# Altium integrated library Renesas Memory.IntLib: 284 symbols (part 3 of 9)
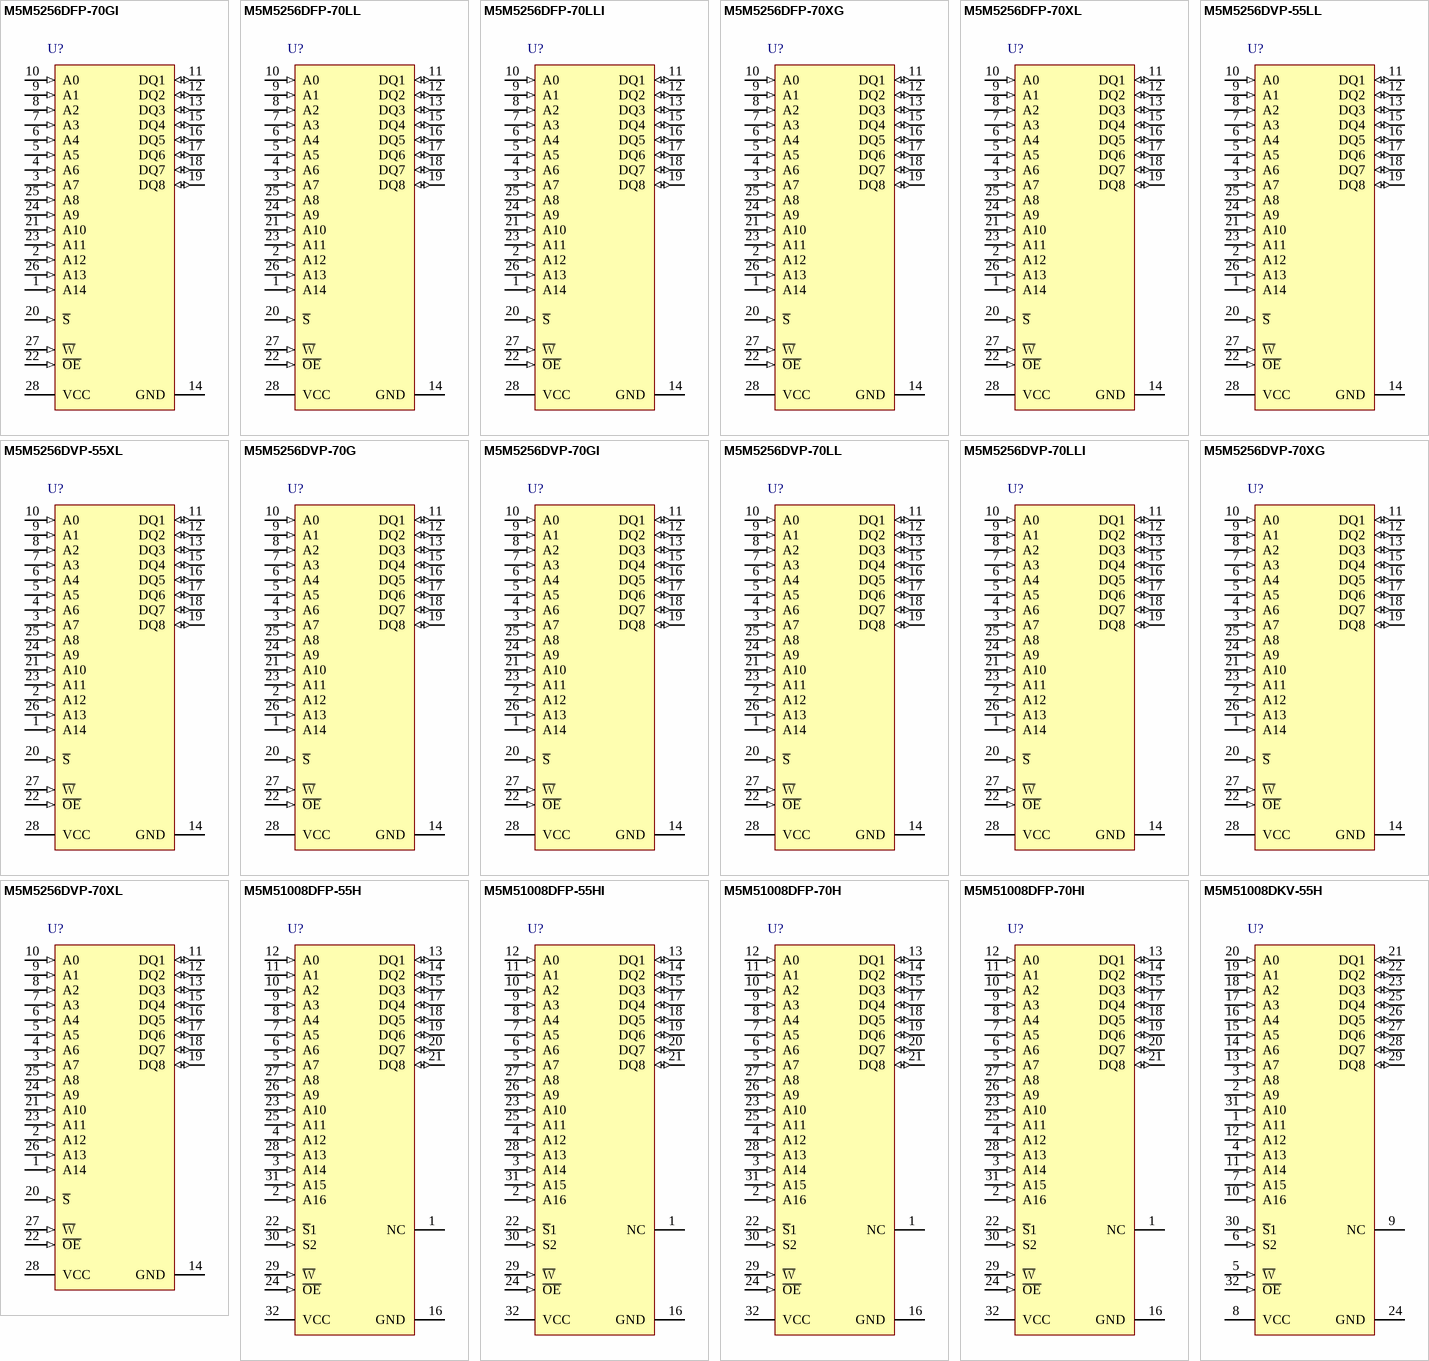
[diagram p17: symbols M5M5256DFP-70GI to M5M51008DKV-55H]

## M5M5256DVP-55LL
designator U?
262144-bit (32768-word x 8-bit) CMOS SRAM; Published: 3-Mar-2010; DatasheetVersion: Rev.2.1, Feb-2004; PackageVersion: Sep-2005; PackageReference: PTSA0028ZA-A; Publisher: Altium Limited; PackageDescription: 28-Pin Thin Shrink Plastic Small Outline Package, 0.55 mm Pitch - Unconventional Pinout; Code_JEITA: P-TSOP(1)28-8x11.8-0.55; ComponentLink1Description: Manufacturer Link; ComponentLink1URL: http://sg.renesas.com/products/memory/memory_category_landing.jsp; ComponentLink2Description: Datasheet; ComponentLink2URL: http://documentation.renesas.com/eng/products/memory/rej03c0055_m5m5256dfp.pdf; ComponentLink3Description: Packaging Specification; ComponentLink3URL: http://sg.renesas.com/media/products/common_info/package/pdf/ic/code/ptsa0028za_a.pdf
footprint PTSA0028ZA-A_N (TSSOP, 28-Leads, Body 8x11.8mm, Pitch 0.55mm, Unconventional Pinout, IPC Medium Density)
footprint PTSA0028ZA-A_L (TSSOP, 28-Leads, Body 8x11.8mm, Pitch 0.55mm, Unconventional Pinout, IPC High Density)
footprint PTSA0028ZA-A_M (TSSOP, 28-Leads, Body 8x11.8mm, Pitch 0.55mm, Unconventional Pinout, IPC Low Density)
pins: 1 A14 (in), 2 A12 (in), 3 A7 (in), 4 A6 (in), 5 A5 (in), 6 A4 (in), 7 A3 (in), 8 A2 (in), 9 A1 (in), 10 A0 (in), 11 DQ1 (io), 12 DQ2 (io), 13 DQ3 (io), 14 GND (power), 15 DQ4 (io), 16 DQ5 (io), 17 DQ6 (io), 18 DQ7 (io), 19 DQ8 (io), 20 ~{S} (in), 21 A10 (in), 22 ~{OE} (in), 23 A11 (in), 24 A9 (in), 25 A8 (in), 26 A13 (in), 27 ~{W} (in), 28 VCC (power)

## M5M5256DVP-55XL
designator U?
262144-bit (32768-word x 8-bit) CMOS SRAM; Published: 3-Mar-2010; DatasheetVersion: Rev.2.1, Feb-2004; PackageVersion: Sep-2005; PackageReference: PTSA0028ZA-A; Publisher: Altium Limited; PackageDescription: 28-Pin Thin Shrink Plastic Small Outline Package, 0.55 mm Pitch - Unconventional Pinout; Code_JEITA: P-TSOP(1)28-8x11.8-0.55; ComponentLink1Description: Manufacturer Link; ComponentLink1URL: http://sg.renesas.com/products/memory/memory_category_landing.jsp; ComponentLink2Description: Datasheet; ComponentLink2URL: http://documentation.renesas.com/eng/products/memory/rej03c0055_m5m5256dfp.pdf; ComponentLink3Description: Packaging Specification; ComponentLink3URL: http://sg.renesas.com/media/products/common_info/package/pdf/ic/code/ptsa0028za_a.pdf
footprint PTSA0028ZA-A_N (TSSOP, 28-Leads, Body 8x11.8mm, Pitch 0.55mm, Unconventional Pinout, IPC Medium Density)
footprint PTSA0028ZA-A_L (TSSOP, 28-Leads, Body 8x11.8mm, Pitch 0.55mm, Unconventional Pinout, IPC High Density)
footprint PTSA0028ZA-A_M (TSSOP, 28-Leads, Body 8x11.8mm, Pitch 0.55mm, Unconventional Pinout, IPC Low Density)
pins: 1 A14 (in), 2 A12 (in), 3 A7 (in), 4 A6 (in), 5 A5 (in), 6 A4 (in), 7 A3 (in), 8 A2 (in), 9 A1 (in), 10 A0 (in), 11 DQ1 (io), 12 DQ2 (io), 13 DQ3 (io), 14 GND (power), 15 DQ4 (io), 16 DQ5 (io), 17 DQ6 (io), 18 DQ7 (io), 19 DQ8 (io), 20 ~{S} (in), 21 A10 (in), 22 ~{OE} (in), 23 A11 (in), 24 A9 (in), 25 A8 (in), 26 A13 (in), 27 ~{W} (in), 28 VCC (power)

## M5M5256DVP-70G
designator U?
262144-bit (32768-word x 8-bit) CMOS SRAM; Published: 3-Mar-2010; DatasheetVersion: Rev.2.1, Feb-2004; PackageVersion: Sep-2005; PackageReference: PTSA0028ZA-A; Publisher: Altium Limited; PackageDescription: 28-Pin Thin Shrink Plastic Small Outline Package, 0.55 mm Pitch - Unconventional Pinout; Code_JEITA: P-TSOP(1)28-8x11.8-0.55; ComponentLink1Description: Manufacturer Link; ComponentLink1URL: http://sg.renesas.com/products/memory/memory_category_landing.jsp; ComponentLink2Description: Datasheet; ComponentLink2URL: http://documentation.renesas.com/eng/products/memory/rej03c0055_m5m5256dfp.pdf; ComponentLink3Description: Packaging Specification; ComponentLink3URL: http://sg.renesas.com/media/products/common_info/package/pdf/ic/code/ptsa0028za_a.pdf
footprint PTSA0028ZA-A_N (TSSOP, 28-Leads, Body 8x11.8mm, Pitch 0.55mm, Unconventional Pinout, IPC Medium Density)
footprint PTSA0028ZA-A_L (TSSOP, 28-Leads, Body 8x11.8mm, Pitch 0.55mm, Unconventional Pinout, IPC High Density)
footprint PTSA0028ZA-A_M (TSSOP, 28-Leads, Body 8x11.8mm, Pitch 0.55mm, Unconventional Pinout, IPC Low Density)
pins: 1 A14 (in), 2 A12 (in), 3 A7 (in), 4 A6 (in), 5 A5 (in), 6 A4 (in), 7 A3 (in), 8 A2 (in), 9 A1 (in), 10 A0 (in), 11 DQ1 (io), 12 DQ2 (io), 13 DQ3 (io), 14 GND (power), 15 DQ4 (io), 16 DQ5 (io), 17 DQ6 (io), 18 DQ7 (io), 19 DQ8 (io), 20 ~{S} (in), 21 A10 (in), 22 ~{OE} (in), 23 A11 (in), 24 A9 (in), 25 A8 (in), 26 A13 (in), 27 ~{W} (in), 28 VCC (power)

## M5M5256DVP-70GI
designator U?
262144-bit (32768-word x 8-bit) CMOS SRAM; Published: 3-Mar-2010; DatasheetVersion: Rev.2.1, Feb-2004; PackageVersion: Sep-2005; PackageReference: PTSA0028ZA-A; Publisher: Altium Limited; PackageDescription: 28-Pin Thin Shrink Plastic Small Outline Package, 0.55 mm Pitch - Unconventional Pinout; Code_JEITA: P-TSOP(1)28-8x11.8-0.55; ComponentLink1Description: Manufacturer Link; ComponentLink1URL: http://sg.renesas.com/products/memory/memory_category_landing.jsp; ComponentLink2Description: Datasheet; ComponentLink2URL: http://documentation.renesas.com/eng/products/memory/rej03c0055_m5m5256dfp.pdf; ComponentLink3Description: Packaging Specification; ComponentLink3URL: http://sg.renesas.com/media/products/common_info/package/pdf/ic/code/ptsa0028za_a.pdf
footprint PTSA0028ZA-A_N (TSSOP, 28-Leads, Body 8x11.8mm, Pitch 0.55mm, Unconventional Pinout, IPC Medium Density)
footprint PTSA0028ZA-A_L (TSSOP, 28-Leads, Body 8x11.8mm, Pitch 0.55mm, Unconventional Pinout, IPC High Density)
footprint PTSA0028ZA-A_M (TSSOP, 28-Leads, Body 8x11.8mm, Pitch 0.55mm, Unconventional Pinout, IPC Low Density)
pins: 1 A14 (in), 2 A12 (in), 3 A7 (in), 4 A6 (in), 5 A5 (in), 6 A4 (in), 7 A3 (in), 8 A2 (in), 9 A1 (in), 10 A0 (in), 11 DQ1 (io), 12 DQ2 (io), 13 DQ3 (io), 14 GND (power), 15 DQ4 (io), 16 DQ5 (io), 17 DQ6 (io), 18 DQ7 (io), 19 DQ8 (io), 20 ~{S} (in), 21 A10 (in), 22 ~{OE} (in), 23 A11 (in), 24 A9 (in), 25 A8 (in), 26 A13 (in), 27 ~{W} (in), 28 VCC (power)

## M5M5256DVP-70LL
designator U?
262144-bit (32768-word x 8-bit) CMOS SRAM; Published: 3-Mar-2010; DatasheetVersion: Rev.2.1, Feb-2004; PackageVersion: Sep-2005; PackageReference: PTSA0028ZA-A; Publisher: Altium Limited; PackageDescription: 28-Pin Thin Shrink Plastic Small Outline Package, 0.55 mm Pitch - Unconventional Pinout; Code_JEITA: P-TSOP(1)28-8x11.8-0.55; ComponentLink1Description: Manufacturer Link; ComponentLink1URL: http://sg.renesas.com/products/memory/memory_category_landing.jsp; ComponentLink2Description: Datasheet; ComponentLink2URL: http://documentation.renesas.com/eng/products/memory/rej03c0055_m5m5256dfp.pdf; ComponentLink3Description: Packaging Specification; ComponentLink3URL: http://sg.renesas.com/media/products/common_info/package/pdf/ic/code/ptsa0028za_a.pdf
footprint PTSA0028ZA-A_N (TSSOP, 28-Leads, Body 8x11.8mm, Pitch 0.55mm, Unconventional Pinout, IPC Medium Density)
footprint PTSA0028ZA-A_L (TSSOP, 28-Leads, Body 8x11.8mm, Pitch 0.55mm, Unconventional Pinout, IPC High Density)
footprint PTSA0028ZA-A_M (TSSOP, 28-Leads, Body 8x11.8mm, Pitch 0.55mm, Unconventional Pinout, IPC Low Density)
pins: 1 A14 (in), 2 A12 (in), 3 A7 (in), 4 A6 (in), 5 A5 (in), 6 A4 (in), 7 A3 (in), 8 A2 (in), 9 A1 (in), 10 A0 (in), 11 DQ1 (io), 12 DQ2 (io), 13 DQ3 (io), 14 GND (power), 15 DQ4 (io), 16 DQ5 (io), 17 DQ6 (io), 18 DQ7 (io), 19 DQ8 (io), 20 ~{S} (in), 21 A10 (in), 22 ~{OE} (in), 23 A11 (in), 24 A9 (in), 25 A8 (in), 26 A13 (in), 27 ~{W} (in), 28 VCC (power)

## M5M5256DVP-70LLI
designator U?
262144-bit (32768-word x 8-bit) CMOS SRAM; Published: 3-Mar-2010; DatasheetVersion: Rev.2.1, Feb-2004; PackageVersion: Sep-2005; PackageReference: PTSA0028ZA-A; Publisher: Altium Limited; PackageDescription: 28-Pin Thin Shrink Plastic Small Outline Package, 0.55 mm Pitch - Unconventional Pinout; Code_JEITA: P-TSOP(1)28-8x11.8-0.55; ComponentLink1Description: Manufacturer Link; ComponentLink1URL: http://sg.renesas.com/products/memory/memory_category_landing.jsp; ComponentLink2Description: Datasheet; ComponentLink2URL: http://documentation.renesas.com/eng/products/memory/rej03c0055_m5m5256dfp.pdf; ComponentLink3Description: Packaging Specification; ComponentLink3URL: http://sg.renesas.com/media/products/common_info/package/pdf/ic/code/ptsa0028za_a.pdf
footprint PTSA0028ZA-A_N (TSSOP, 28-Leads, Body 8x11.8mm, Pitch 0.55mm, Unconventional Pinout, IPC Medium Density)
footprint PTSA0028ZA-A_L (TSSOP, 28-Leads, Body 8x11.8mm, Pitch 0.55mm, Unconventional Pinout, IPC High Density)
footprint PTSA0028ZA-A_M (TSSOP, 28-Leads, Body 8x11.8mm, Pitch 0.55mm, Unconventional Pinout, IPC Low Density)
pins: 1 A14 (in), 2 A12 (in), 3 A7 (in), 4 A6 (in), 5 A5 (in), 6 A4 (in), 7 A3 (in), 8 A2 (in), 9 A1 (in), 10 A0 (in), 11 DQ1 (io), 12 DQ2 (io), 13 DQ3 (io), 14 GND (power), 15 DQ4 (io), 16 DQ5 (io), 17 DQ6 (io), 18 DQ7 (io), 19 DQ8 (io), 20 ~{S} (in), 21 A10 (in), 22 ~{OE} (in), 23 A11 (in), 24 A9 (in), 25 A8 (in), 26 A13 (in), 27 ~{W} (in), 28 VCC (power)

## M5M5256DVP-70XG
designator U?
262144-bit (32768-word x 8-bit) CMOS SRAM; Published: 3-Mar-2010; DatasheetVersion: Rev.2.1, Feb-2004; PackageVersion: Sep-2005; PackageReference: PTSA0028ZA-A; Publisher: Altium Limited; PackageDescription: 28-Pin Thin Shrink Plastic Small Outline Package, 0.55 mm Pitch - Unconventional Pinout; Code_JEITA: P-TSOP(1)28-8x11.8-0.55; ComponentLink1Description: Manufacturer Link; ComponentLink1URL: http://sg.renesas.com/products/memory/memory_category_landing.jsp; ComponentLink2Description: Datasheet; ComponentLink2URL: http://documentation.renesas.com/eng/products/memory/rej03c0055_m5m5256dfp.pdf; ComponentLink3Description: Packaging Specification; ComponentLink3URL: http://sg.renesas.com/media/products/common_info/package/pdf/ic/code/ptsa0028za_a.pdf
footprint PTSA0028ZA-A_N (TSSOP, 28-Leads, Body 8x11.8mm, Pitch 0.55mm, Unconventional Pinout, IPC Medium Density)
footprint PTSA0028ZA-A_L (TSSOP, 28-Leads, Body 8x11.8mm, Pitch 0.55mm, Unconventional Pinout, IPC High Density)
footprint PTSA0028ZA-A_M (TSSOP, 28-Leads, Body 8x11.8mm, Pitch 0.55mm, Unconventional Pinout, IPC Low Density)
pins: 1 A14 (in), 2 A12 (in), 3 A7 (in), 4 A6 (in), 5 A5 (in), 6 A4 (in), 7 A3 (in), 8 A2 (in), 9 A1 (in), 10 A0 (in), 11 DQ1 (io), 12 DQ2 (io), 13 DQ3 (io), 14 GND (power), 15 DQ4 (io), 16 DQ5 (io), 17 DQ6 (io), 18 DQ7 (io), 19 DQ8 (io), 20 ~{S} (in), 21 A10 (in), 22 ~{OE} (in), 23 A11 (in), 24 A9 (in), 25 A8 (in), 26 A13 (in), 27 ~{W} (in), 28 VCC (power)

## M5M5256DVP-70XL
designator U?
262144-bit (32768-word x 8-bit) CMOS SRAM; Published: 3-Mar-2010; DatasheetVersion: Rev.2.1, Feb-2004; PackageVersion: Sep-2005; PackageReference: PTSA0028ZA-A; Publisher: Altium Limited; PackageDescription: 28-Pin Thin Shrink Plastic Small Outline Package, 0.55 mm Pitch - Unconventional Pinout; Code_JEITA: P-TSOP(1)28-8x11.8-0.55; ComponentLink1Description: Manufacturer Link; ComponentLink1URL: http://sg.renesas.com/products/memory/memory_category_landing.jsp; ComponentLink2Description: Datasheet; ComponentLink2URL: http://documentation.renesas.com/eng/products/memory/rej03c0055_m5m5256dfp.pdf; ComponentLink3Description: Packaging Specification; ComponentLink3URL: http://sg.renesas.com/media/products/common_info/package/pdf/ic/code/ptsa0028za_a.pdf
footprint PTSA0028ZA-A_N (TSSOP, 28-Leads, Body 8x11.8mm, Pitch 0.55mm, Unconventional Pinout, IPC Medium Density)
footprint PTSA0028ZA-A_L (TSSOP, 28-Leads, Body 8x11.8mm, Pitch 0.55mm, Unconventional Pinout, IPC High Density)
footprint PTSA0028ZA-A_M (TSSOP, 28-Leads, Body 8x11.8mm, Pitch 0.55mm, Unconventional Pinout, IPC Low Density)
pins: 1 A14 (in), 2 A12 (in), 3 A7 (in), 4 A6 (in), 5 A5 (in), 6 A4 (in), 7 A3 (in), 8 A2 (in), 9 A1 (in), 10 A0 (in), 11 DQ1 (io), 12 DQ2 (io), 13 DQ3 (io), 14 GND (power), 15 DQ4 (io), 16 DQ5 (io), 17 DQ6 (io), 18 DQ7 (io), 19 DQ8 (io), 20 ~{S} (in), 21 A10 (in), 22 ~{OE} (in), 23 A11 (in), 24 A9 (in), 25 A8 (in), 26 A13 (in), 27 ~{W} (in), 28 VCC (power)

## M5M51008DFP-55H
designator U?
1048576-bit (131072-word x 8-bit) CMOS STATIC SRAM; Published: 3-Mar-2010; DatasheetVersion: Ver 1.1, Apr-2003; PackageVersion: Sep-2005; PackageReference: PRSP0032DA-A; Publisher: Altium Limited; PackageDescription: 32-Pin Plastic Small Outline Package, 20.8 x 11.4 mm Body, 1.27 mm Pitch; Code_JEITA: P-SOP32-11.4x20.75-1.27; ComponentLink1Description: Manufacturer Link; ComponentLink1URL: http://sg.renesas.com/products/memory/memory_category_landing.jsp; ComponentLink2Description: Datasheet; ComponentLink2URL: http://documentation.renesas.com/eng/products/memory/mej02c2003_m5m51008dvp.pdf; ComponentLink3Description: Packaging Specification; ComponentLink3URL: http://sg.renesas.com/media/products/common_info/package/pdf/ic/code/prsp0032da_a.pdf
footprint PRSP0032DA-A_N (SOP, 32-Leads, Body 20.8x11.4mm, Pitch 1.27mm, IPC Medium Density)
footprint PRSP0032DA-A_L (SOP, 32-Leads, Body 20.8x11.4mm, Pitch 1.27mm, IPC High Density)
footprint PRSP0032DA-A_M (SOP, 32-Leads, Body 20.8x11.4mm, Pitch 1.27mm, IPC Low Density)
pins: 1 NC, 2 A16 (in), 3 A14 (in), 4 A12 (in), 5 A7 (in), 6 A6 (in), 7 A5 (in), 8 A4 (in), 9 A3 (in), 10 A2 (in), 11 A1 (in), 12 A0 (in), 13 DQ1 (io), 14 DQ2 (io), 15 DQ3 (io), 16 GND (power), 17 DQ4 (io), 18 DQ5 (io), 19 DQ6 (io), 20 DQ7 (io), 21 DQ8 (io), 22 ~{S}1 (in), 23 A10 (in), 24 ~{OE} (in), 25 A11 (in), 26 A9 (in), 27 A8 (in), 28 A13 (in), 29 ~{W} (in), 30 S2 (in), 31 A15 (in), 32 VCC (power)

## M5M51008DFP-55HI
designator U?
1048576-bit (131072-word x 8-bit) CMOS STATIC SRAM; Published: 3-Mar-2010; DatasheetVersion: Ver 1.1, Apr-2003; PackageVersion: Sep-2005; PackageReference: PRSP0032DA-A; Publisher: Altium Limited; PackageDescription: 32-Pin Plastic Small Outline Package, 20.8 x 11.4 mm Body, 1.27 mm Pitch; Code_JEITA: P-SOP32-11.4x20.75-1.27; ComponentLink1Description: Manufacturer Link; ComponentLink1URL: http://sg.renesas.com/products/memory/memory_category_landing.jsp; ComponentLink2Description: Datasheet; ComponentLink2URL: http://documentation.renesas.com/eng/products/memory/mej02c2003_m5m51008dvp.pdf; ComponentLink3Description: Packaging Specification; ComponentLink3URL: http://sg.renesas.com/media/products/common_info/package/pdf/ic/code/prsp0032da_a.pdf
footprint PRSP0032DA-A_N (SOP, 32-Leads, Body 20.8x11.4mm, Pitch 1.27mm, IPC Medium Density)
footprint PRSP0032DA-A_L (SOP, 32-Leads, Body 20.8x11.4mm, Pitch 1.27mm, IPC High Density)
footprint PRSP0032DA-A_M (SOP, 32-Leads, Body 20.8x11.4mm, Pitch 1.27mm, IPC Low Density)
pins: 1 NC, 2 A16 (in), 3 A14 (in), 4 A12 (in), 5 A7 (in), 6 A6 (in), 7 A5 (in), 8 A4 (in), 9 A3 (in), 10 A2 (in), 11 A1 (in), 12 A0 (in), 13 DQ1 (io), 14 DQ2 (io), 15 DQ3 (io), 16 GND (power), 17 DQ4 (io), 18 DQ5 (io), 19 DQ6 (io), 20 DQ7 (io), 21 DQ8 (io), 22 ~{S}1 (in), 23 A10 (in), 24 ~{OE} (in), 25 A11 (in), 26 A9 (in), 27 A8 (in), 28 A13 (in), 29 ~{W} (in), 30 S2 (in), 31 A15 (in), 32 VCC (power)

## M5M51008DFP-70H
designator U?
1048576-bit (131072-word x 8-bit) CMOS STATIC SRAM; Published: 3-Mar-2010; DatasheetVersion: Ver 1.1, Apr-2003; PackageVersion: Sep-2005; PackageReference: PRSP0032DA-A; Publisher: Altium Limited; PackageDescription: 32-Pin Plastic Small Outline Package, 20.8 x 11.4 mm Body, 1.27 mm Pitch; Code_JEITA: P-SOP32-11.4x20.75-1.27; ComponentLink1Description: Manufacturer Link; ComponentLink1URL: http://sg.renesas.com/products/memory/memory_category_landing.jsp; ComponentLink2Description: Datasheet; ComponentLink2URL: http://documentation.renesas.com/eng/products/memory/mej02c2003_m5m51008dvp.pdf; ComponentLink3Description: Packaging Specification; ComponentLink3URL: http://sg.renesas.com/media/products/common_info/package/pdf/ic/code/prsp0032da_a.pdf
footprint PRSP0032DA-A_N (SOP, 32-Leads, Body 20.8x11.4mm, Pitch 1.27mm, IPC Medium Density)
footprint PRSP0032DA-A_L (SOP, 32-Leads, Body 20.8x11.4mm, Pitch 1.27mm, IPC High Density)
footprint PRSP0032DA-A_M (SOP, 32-Leads, Body 20.8x11.4mm, Pitch 1.27mm, IPC Low Density)
pins: 1 NC, 2 A16 (in), 3 A14 (in), 4 A12 (in), 5 A7 (in), 6 A6 (in), 7 A5 (in), 8 A4 (in), 9 A3 (in), 10 A2 (in), 11 A1 (in), 12 A0 (in), 13 DQ1 (io), 14 DQ2 (io), 15 DQ3 (io), 16 GND (power), 17 DQ4 (io), 18 DQ5 (io), 19 DQ6 (io), 20 DQ7 (io), 21 DQ8 (io), 22 ~{S}1 (in), 23 A10 (in), 24 ~{OE} (in), 25 A11 (in), 26 A9 (in), 27 A8 (in), 28 A13 (in), 29 ~{W} (in), 30 S2 (in), 31 A15 (in), 32 VCC (power)

## M5M51008DFP-70HI
designator U?
1048576-bit (131072-word x 8-bit) CMOS STATIC SRAM; Published: 3-Mar-2010; DatasheetVersion: Ver 1.1, Apr-2003; PackageVersion: Sep-2005; PackageReference: PRSP0032DA-A; Publisher: Altium Limited; PackageDescription: 32-Pin Plastic Small Outline Package, 20.8 x 11.4 mm Body, 1.27 mm Pitch; Code_JEITA: P-SOP32-11.4x20.75-1.27; ComponentLink1Description: Manufacturer Link; ComponentLink1URL: http://sg.renesas.com/products/memory/memory_category_landing.jsp; ComponentLink2Description: Datasheet; ComponentLink2URL: http://documentation.renesas.com/eng/products/memory/mej02c2003_m5m51008dvp.pdf; ComponentLink3Description: Packaging Specification; ComponentLink3URL: http://sg.renesas.com/media/products/common_info/package/pdf/ic/code/prsp0032da_a.pdf
footprint PRSP0032DA-A_N (SOP, 32-Leads, Body 20.8x11.4mm, Pitch 1.27mm, IPC Medium Density)
footprint PRSP0032DA-A_L (SOP, 32-Leads, Body 20.8x11.4mm, Pitch 1.27mm, IPC High Density)
footprint PRSP0032DA-A_M (SOP, 32-Leads, Body 20.8x11.4mm, Pitch 1.27mm, IPC Low Density)
pins: 1 NC, 2 A16 (in), 3 A14 (in), 4 A12 (in), 5 A7 (in), 6 A6 (in), 7 A5 (in), 8 A4 (in), 9 A3 (in), 10 A2 (in), 11 A1 (in), 12 A0 (in), 13 DQ1 (io), 14 DQ2 (io), 15 DQ3 (io), 16 GND (power), 17 DQ4 (io), 18 DQ5 (io), 19 DQ6 (io), 20 DQ7 (io), 21 DQ8 (io), 22 ~{S}1 (in), 23 A10 (in), 24 ~{OE} (in), 25 A11 (in), 26 A9 (in), 27 A8 (in), 28 A13 (in), 29 ~{W} (in), 30 S2 (in), 31 A15 (in), 32 VCC (power)

## M5M51008DKV-55H
designator U?
1048576-bit (131072-word x 8-bit) CMOS STATIC SRAM; Published: 3-Mar-2010; DatasheetVersion: Ver 1.1, Apr-2003; PackageVersion: Sep-2005; PackageReference: PTSA0032KB-A; Publisher: Altium Limited; PackageDescription: 32-Pin Plastic Thin Shrink Small Outline Package 0.5 mm Pitch; Code_JEITA: P-TSOP(1)32-8x11.8-0.50; ComponentLink1Description: Manufacturer Link; ComponentLink1URL: http://sg.renesas.com/products/memory/memory_category_landing.jsp; ComponentLink2Description: Datasheet; ComponentLink2URL: http://documentation.renesas.com/eng/products/memory/mej02c2003_m5m51008dvp.pdf; ComponentLink3Description: Packaging Specification; ComponentLink3URL: http://sg.renesas.com/media/products/common_info/package/pdf/ic/code/ptsa0032kb_a.pdf
footprint PTSA0032KB-A_N (TSSOP, 32-Leads, Body 8x11.8mm, Pitch 0.5mm, IPC Medium Density)
footprint PTSA0032KB-A_L (TSSOP, 32-Leads, Body 8x11.8mm, Pitch 0.5mm, IPC High Density)
footprint PTSA0032KB-A_M (TSSOP, 32-Leads, Body 8x11.8mm, Pitch 0.5mm, IPC Low Density)
pins: 1 A11 (in), 2 A9 (in), 3 A8 (in), 4 A13 (in), 5 ~{W} (in), 6 S2 (in), 7 A15 (in), 8 VCC (power), 9 NC, 10 A16 (in), 11 A14 (in), 12 A12 (in), 13 A7 (in), 14 A6 (in), 15 A5 (in), 16 A4 (in), 17 A3 (in), 18 A2 (in), 19 A1 (in), 20 A0 (in), 21 DQ1 (io), 22 DQ2 (io), 23 DQ3 (io), 24 GND (power), 25 DQ4 (io), 26 DQ5 (io), 27 DQ6 (io), 28 DQ7 (io), 29 DQ8 (io), 30 ~{S}1 (in), 31 A10 (in), 32 ~{OE} (in)

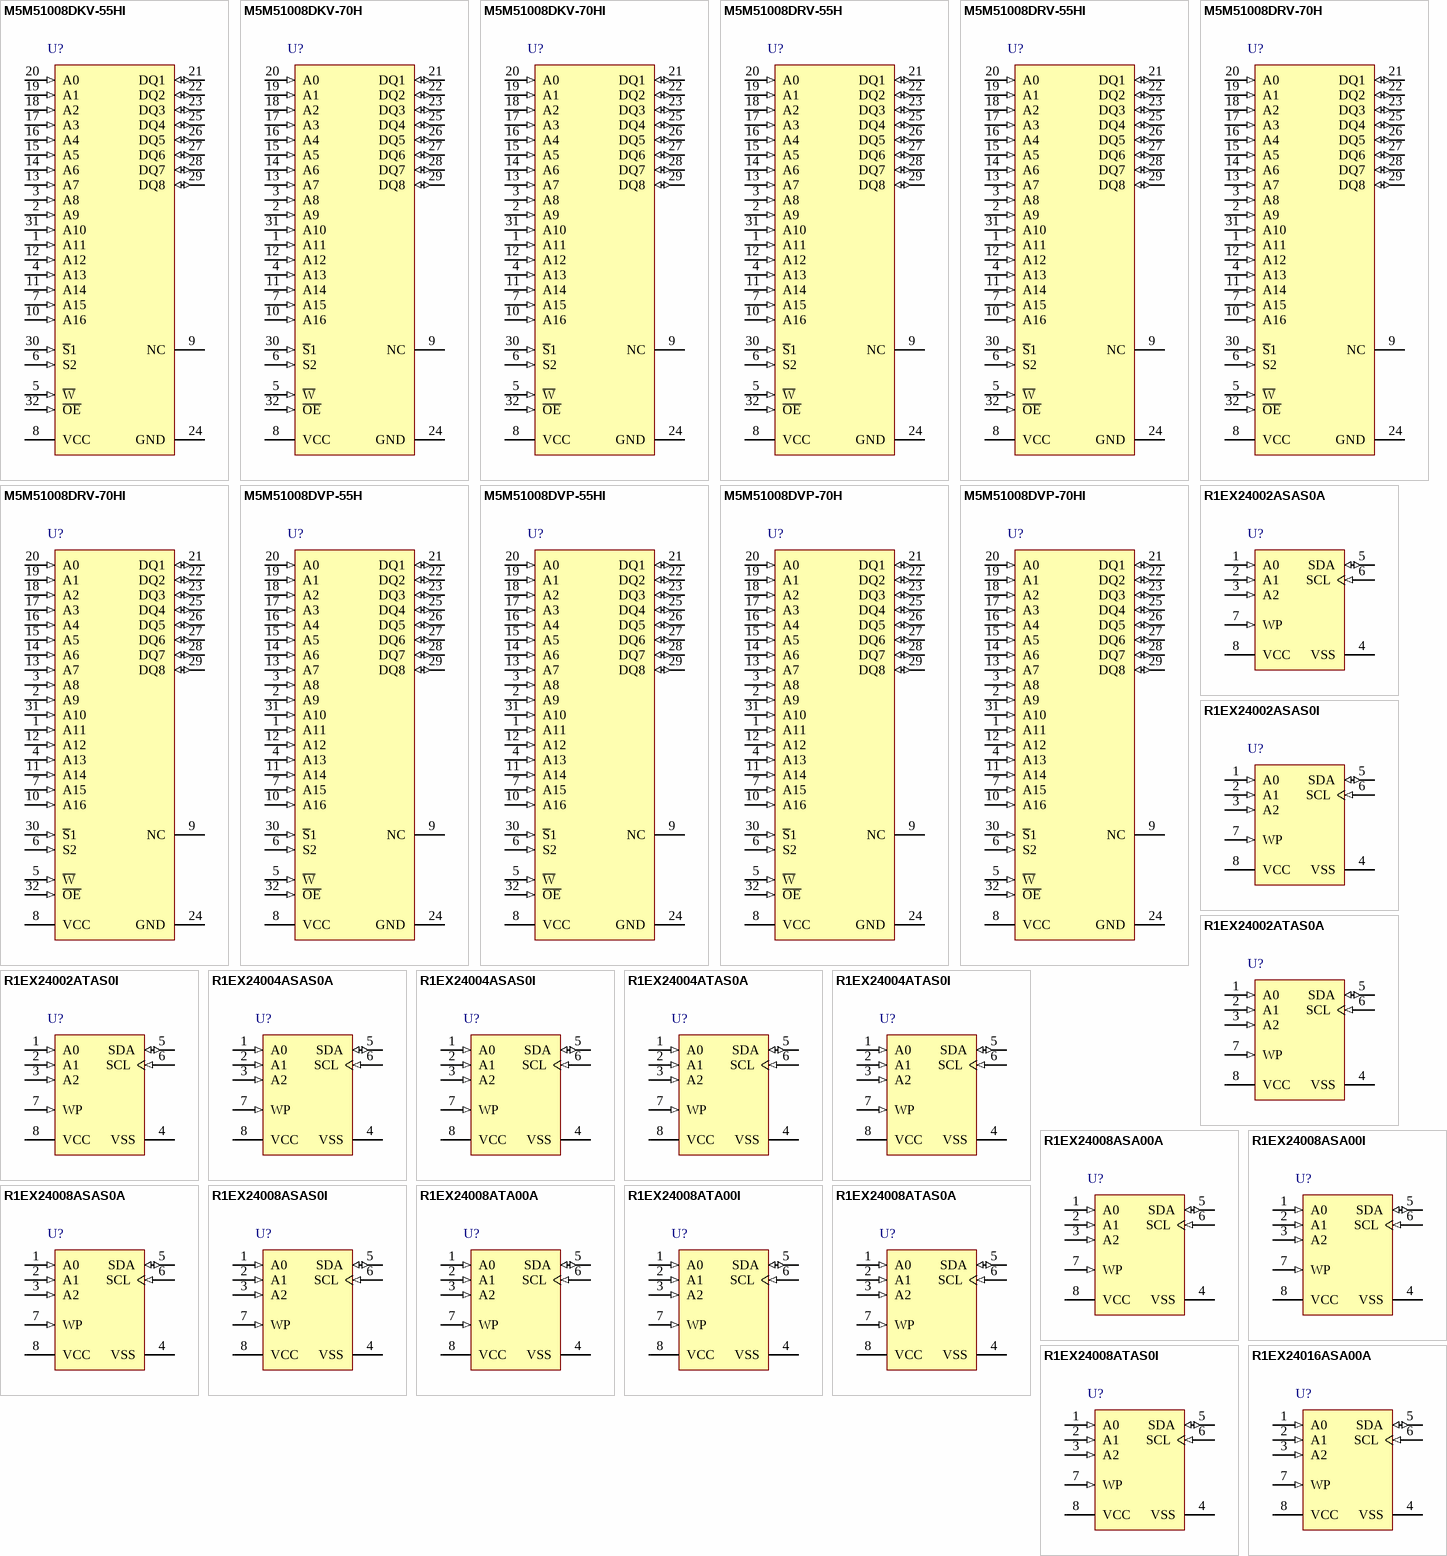
[diagram p5: symbols M5M51008DKV-55HI to R1EX24016ASA00A]

## M5M51008DKV-55HI
designator U?
1048576-bit (131072-word x 8-bit) CMOS STATIC SRAM; Published: 3-Mar-2010; DatasheetVersion: Ver 1.1, Apr-2003; PackageVersion: Sep-2005; PackageReference: PTSA0032KB-A; Publisher: Altium Limited; PackageDescription: 32-Pin Plastic Thin Shrink Small Outline Package 0.5 mm Pitch; Code_JEITA: P-TSOP(1)32-8x11.8-0.50; ComponentLink1Description: Manufacturer Link; ComponentLink1URL: http://sg.renesas.com/products/memory/memory_category_landing.jsp; ComponentLink2Description: Datasheet; ComponentLink2URL: http://documentation.renesas.com/eng/products/memory/mej02c2003_m5m51008dvp.pdf; ComponentLink3Description: Packaging Specification; ComponentLink3URL: http://sg.renesas.com/media/products/common_info/package/pdf/ic/code/ptsa0032kb_a.pdf
footprint PTSA0032KB-A_N (TSSOP, 32-Leads, Body 8x11.8mm, Pitch 0.5mm, IPC Medium Density)
footprint PTSA0032KB-A_L (TSSOP, 32-Leads, Body 8x11.8mm, Pitch 0.5mm, IPC High Density)
footprint PTSA0032KB-A_M (TSSOP, 32-Leads, Body 8x11.8mm, Pitch 0.5mm, IPC Low Density)
pins: 1 A11 (in), 2 A9 (in), 3 A8 (in), 4 A13 (in), 5 ~{W} (in), 6 S2 (in), 7 A15 (in), 8 VCC (power), 9 NC, 10 A16 (in), 11 A14 (in), 12 A12 (in), 13 A7 (in), 14 A6 (in), 15 A5 (in), 16 A4 (in), 17 A3 (in), 18 A2 (in), 19 A1 (in), 20 A0 (in), 21 DQ1 (io), 22 DQ2 (io), 23 DQ3 (io), 24 GND (power), 25 DQ4 (io), 26 DQ5 (io), 27 DQ6 (io), 28 DQ7 (io), 29 DQ8 (io), 30 ~{S}1 (in), 31 A10 (in), 32 ~{OE} (in)

## M5M51008DKV-70H
designator U?
1048576-bit (131072-word x 8-bit) CMOS STATIC SRAM; Published: 3-Mar-2010; DatasheetVersion: Ver 1.1, Apr-2003; PackageVersion: Sep-2005; PackageReference: PTSA0032KB-A; Publisher: Altium Limited; PackageDescription: 32-Pin Plastic Thin Shrink Small Outline Package 0.5 mm Pitch; Code_JEITA: P-TSOP(1)32-8x11.8-0.50; ComponentLink1Description: Manufacturer Link; ComponentLink1URL: http://sg.renesas.com/products/memory/memory_category_landing.jsp; ComponentLink2Description: Datasheet; ComponentLink2URL: http://documentation.renesas.com/eng/products/memory/mej02c2003_m5m51008dvp.pdf; ComponentLink3Description: Packaging Specification; ComponentLink3URL: http://sg.renesas.com/media/products/common_info/package/pdf/ic/code/ptsa0032kb_a.pdf
footprint PTSA0032KB-A_N (TSSOP, 32-Leads, Body 8x11.8mm, Pitch 0.5mm, IPC Medium Density)
footprint PTSA0032KB-A_L (TSSOP, 32-Leads, Body 8x11.8mm, Pitch 0.5mm, IPC High Density)
footprint PTSA0032KB-A_M (TSSOP, 32-Leads, Body 8x11.8mm, Pitch 0.5mm, IPC Low Density)
pins: 1 A11 (in), 2 A9 (in), 3 A8 (in), 4 A13 (in), 5 ~{W} (in), 6 S2 (in), 7 A15 (in), 8 VCC (power), 9 NC, 10 A16 (in), 11 A14 (in), 12 A12 (in), 13 A7 (in), 14 A6 (in), 15 A5 (in), 16 A4 (in), 17 A3 (in), 18 A2 (in), 19 A1 (in), 20 A0 (in), 21 DQ1 (io), 22 DQ2 (io), 23 DQ3 (io), 24 GND (power), 25 DQ4 (io), 26 DQ5 (io), 27 DQ6 (io), 28 DQ7 (io), 29 DQ8 (io), 30 ~{S}1 (in), 31 A10 (in), 32 ~{OE} (in)

## M5M51008DKV-70HI
designator U?
1048576-bit (131072-word x 8-bit) CMOS STATIC SRAM; Published: 3-Mar-2010; DatasheetVersion: Ver 1.1, Apr-2003; PackageVersion: Sep-2005; PackageReference: PTSA0032KB-A; Publisher: Altium Limited; PackageDescription: 32-Pin Plastic Thin Shrink Small Outline Package 0.5 mm Pitch; Code_JEITA: P-TSOP(1)32-8x11.8-0.50; ComponentLink1Description: Manufacturer Link; ComponentLink1URL: http://sg.renesas.com/products/memory/memory_category_landing.jsp; ComponentLink2Description: Datasheet; ComponentLink2URL: http://documentation.renesas.com/eng/products/memory/mej02c2003_m5m51008dvp.pdf; ComponentLink3Description: Packaging Specification; ComponentLink3URL: http://sg.renesas.com/media/products/common_info/package/pdf/ic/code/ptsa0032kb_a.pdf
footprint PTSA0032KB-A_N (TSSOP, 32-Leads, Body 8x11.8mm, Pitch 0.5mm, IPC Medium Density)
footprint PTSA0032KB-A_L (TSSOP, 32-Leads, Body 8x11.8mm, Pitch 0.5mm, IPC High Density)
footprint PTSA0032KB-A_M (TSSOP, 32-Leads, Body 8x11.8mm, Pitch 0.5mm, IPC Low Density)
pins: 1 A11 (in), 2 A9 (in), 3 A8 (in), 4 A13 (in), 5 ~{W} (in), 6 S2 (in), 7 A15 (in), 8 VCC (power), 9 NC, 10 A16 (in), 11 A14 (in), 12 A12 (in), 13 A7 (in), 14 A6 (in), 15 A5 (in), 16 A4 (in), 17 A3 (in), 18 A2 (in), 19 A1 (in), 20 A0 (in), 21 DQ1 (io), 22 DQ2 (io), 23 DQ3 (io), 24 GND (power), 25 DQ4 (io), 26 DQ5 (io), 27 DQ6 (io), 28 DQ7 (io), 29 DQ8 (io), 30 ~{S}1 (in), 31 A10 (in), 32 ~{OE} (in)

## M5M51008DRV-55H
designator U?
1048576-bit (131072-word x 8-bit) CMOS STATIC SRAM; Published: 3-Mar-2010; DatasheetVersion: Ver 1.1, Apr-2003; PackageVersion: Sep-2005; PackageReference: PTSA0032KA-B; Publisher: Altium Limited; PackageDescription: 32-Pin Plastic Thin Shrink Small Outline Package, Reverse Pinout 0.5 mm Pitch; Code_JEITA: P-TSOP(1)32-8x18.4-0.50; ComponentLink1Description: Manufacturer Link; ComponentLink1URL: http://sg.renesas.com/products/memory/memory_category_landing.jsp; ComponentLink2Description: Datasheet; ComponentLink2URL: http://documentation.renesas.com/eng/products/memory/mej02c2003_m5m51008dvp.pdf; ComponentLink3Description: Packaging Specification; ComponentLink3URL: http://sg.renesas.com/media/products/common_info/package/pdf/ic/code/ptsa0032ka_b.pdf
footprint PTSA0032KA-B_N (TSSOP, 32-Leads, Body 8x18.4mm, Pitch 0.5mm, Reverse Pinout, IPC Medium Density)
footprint PTSA0032KA-B_L (TSSOP, 32-Leads, Body 8x18.4mm, Pitch 0.5mm, Reverse Pinout, IPC High Density)
footprint PTSA0032KA-B_M (TSSOP, 32-Leads, Body 8x18.4mm, Pitch 0.5mm, Reverse Pinout, IPC Low Density)
pins: 1 A11 (in), 2 A9 (in), 3 A8 (in), 4 A13 (in), 5 ~{W} (in), 6 S2 (in), 7 A15 (in), 8 VCC (power), 9 NC, 10 A16 (in), 11 A14 (in), 12 A12 (in), 13 A7 (in), 14 A6 (in), 15 A5 (in), 16 A4 (in), 17 A3 (in), 18 A2 (in), 19 A1 (in), 20 A0 (in), 21 DQ1 (io), 22 DQ2 (io), 23 DQ3 (io), 24 GND (power), 25 DQ4 (io), 26 DQ5 (io), 27 DQ6 (io), 28 DQ7 (io), 29 DQ8 (io), 30 ~{S}1 (in), 31 A10 (in), 32 ~{OE} (in)

## M5M51008DRV-55HI
designator U?
1048576-bit (131072-word x 8-bit) CMOS STATIC SRAM; Published: 3-Mar-2010; DatasheetVersion: Ver 1.1, Apr-2003; PackageVersion: Sep-2005; PackageReference: PTSA0032KA-B; Publisher: Altium Limited; PackageDescription: 32-Pin Plastic Thin Shrink Small Outline Package, Reverse Pinout 0.5 mm Pitch; Code_JEITA: P-TSOP(1)32-8x18.4-0.50; ComponentLink1Description: Manufacturer Link; ComponentLink1URL: http://sg.renesas.com/products/memory/memory_category_landing.jsp; ComponentLink2Description: Datasheet; ComponentLink2URL: http://documentation.renesas.com/eng/products/memory/mej02c2003_m5m51008dvp.pdf; ComponentLink3Description: Packaging Specification; ComponentLink3URL: http://sg.renesas.com/media/products/common_info/package/pdf/ic/code/ptsa0032ka_b.pdf
footprint PTSA0032KA-B_N (TSSOP, 32-Leads, Body 8x18.4mm, Pitch 0.5mm, Reverse Pinout, IPC Medium Density)
footprint PTSA0032KA-B_L (TSSOP, 32-Leads, Body 8x18.4mm, Pitch 0.5mm, Reverse Pinout, IPC High Density)
footprint PTSA0032KA-B_M (TSSOP, 32-Leads, Body 8x18.4mm, Pitch 0.5mm, Reverse Pinout, IPC Low Density)
pins: 1 A11 (in), 2 A9 (in), 3 A8 (in), 4 A13 (in), 5 ~{W} (in), 6 S2 (in), 7 A15 (in), 8 VCC (power), 9 NC, 10 A16 (in), 11 A14 (in), 12 A12 (in), 13 A7 (in), 14 A6 (in), 15 A5 (in), 16 A4 (in), 17 A3 (in), 18 A2 (in), 19 A1 (in), 20 A0 (in), 21 DQ1 (io), 22 DQ2 (io), 23 DQ3 (io), 24 GND (power), 25 DQ4 (io), 26 DQ5 (io), 27 DQ6 (io), 28 DQ7 (io), 29 DQ8 (io), 30 ~{S}1 (in), 31 A10 (in), 32 ~{OE} (in)

## M5M51008DRV-70H
designator U?
1048576-bit (131072-word x 8-bit) CMOS STATIC SRAM; Published: 3-Mar-2010; DatasheetVersion: Ver 1.1, Apr-2003; PackageVersion: Sep-2005; PackageReference: PTSA0032KA-B; Publisher: Altium Limited; PackageDescription: 32-Pin Plastic Thin Shrink Small Outline Package, Reverse Pinout 0.5 mm Pitch; Code_JEITA: P-TSOP(1)32-8x18.4-0.50; ComponentLink1Description: Manufacturer Link; ComponentLink1URL: http://sg.renesas.com/products/memory/memory_category_landing.jsp; ComponentLink2Description: Datasheet; ComponentLink2URL: http://documentation.renesas.com/eng/products/memory/mej02c2003_m5m51008dvp.pdf; ComponentLink3Description: Packaging Specification; ComponentLink3URL: http://sg.renesas.com/media/products/common_info/package/pdf/ic/code/ptsa0032ka_b.pdf
footprint PTSA0032KA-B_N (TSSOP, 32-Leads, Body 8x18.4mm, Pitch 0.5mm, Reverse Pinout, IPC Medium Density)
footprint PTSA0032KA-B_L (TSSOP, 32-Leads, Body 8x18.4mm, Pitch 0.5mm, Reverse Pinout, IPC High Density)
footprint PTSA0032KA-B_M (TSSOP, 32-Leads, Body 8x18.4mm, Pitch 0.5mm, Reverse Pinout, IPC Low Density)
pins: 1 A11 (in), 2 A9 (in), 3 A8 (in), 4 A13 (in), 5 ~{W} (in), 6 S2 (in), 7 A15 (in), 8 VCC (power), 9 NC, 10 A16 (in), 11 A14 (in), 12 A12 (in), 13 A7 (in), 14 A6 (in), 15 A5 (in), 16 A4 (in), 17 A3 (in), 18 A2 (in), 19 A1 (in), 20 A0 (in), 21 DQ1 (io), 22 DQ2 (io), 23 DQ3 (io), 24 GND (power), 25 DQ4 (io), 26 DQ5 (io), 27 DQ6 (io), 28 DQ7 (io), 29 DQ8 (io), 30 ~{S}1 (in), 31 A10 (in), 32 ~{OE} (in)

## M5M51008DRV-70HI
designator U?
1048576-bit (131072-word x 8-bit) CMOS STATIC SRAM; Published: 3-Mar-2010; DatasheetVersion: Ver 1.1, Apr-2003; PackageVersion: Sep-2005; PackageReference: PTSA0032KA-B; Publisher: Altium Limited; PackageDescription: 32-Pin Plastic Thin Shrink Small Outline Package, Reverse Pinout 0.5 mm Pitch; Code_JEITA: P-TSOP(1)32-8x18.4-0.50; ComponentLink1Description: Manufacturer Link; ComponentLink1URL: http://sg.renesas.com/products/memory/memory_category_landing.jsp; ComponentLink2Description: Datasheet; ComponentLink2URL: http://documentation.renesas.com/eng/products/memory/mej02c2003_m5m51008dvp.pdf; ComponentLink3Description: Packaging Specification; ComponentLink3URL: http://sg.renesas.com/media/products/common_info/package/pdf/ic/code/ptsa0032ka_b.pdf
footprint PTSA0032KA-B_N (TSSOP, 32-Leads, Body 8x18.4mm, Pitch 0.5mm, Reverse Pinout, IPC Medium Density)
footprint PTSA0032KA-B_L (TSSOP, 32-Leads, Body 8x18.4mm, Pitch 0.5mm, Reverse Pinout, IPC High Density)
footprint PTSA0032KA-B_M (TSSOP, 32-Leads, Body 8x18.4mm, Pitch 0.5mm, Reverse Pinout, IPC Low Density)
pins: 1 A11 (in), 2 A9 (in), 3 A8 (in), 4 A13 (in), 5 ~{W} (in), 6 S2 (in), 7 A15 (in), 8 VCC (power), 9 NC, 10 A16 (in), 11 A14 (in), 12 A12 (in), 13 A7 (in), 14 A6 (in), 15 A5 (in), 16 A4 (in), 17 A3 (in), 18 A2 (in), 19 A1 (in), 20 A0 (in), 21 DQ1 (io), 22 DQ2 (io), 23 DQ3 (io), 24 GND (power), 25 DQ4 (io), 26 DQ5 (io), 27 DQ6 (io), 28 DQ7 (io), 29 DQ8 (io), 30 ~{S}1 (in), 31 A10 (in), 32 ~{OE} (in)

## M5M51008DVP-55H
designator U?
1048576-bit (131072-word x 8-bit) CMOS STATIC SRAM; Published: 3-Mar-2010; DatasheetVersion: Ver 1.1, Apr-2003; PackageVersion: Sep-2005; PackageReference: PTSA0032KA-A; Publisher: Altium Limited; PackageDescription: 32-Pin Plastic Thin Shrink Small Outline Package 0.5 mm Pitch; Code_JEITA: P-TSOP(1)32-8x18.4-0.50; Code_IPC: TSSOP50P2000-32; ComponentLink1Description: Manufacturer Link; ComponentLink1URL: http://sg.renesas.com/products/memory/memory_category_landing.jsp; ComponentLink2Description: Datasheet; ComponentLink2URL: http://documentation.renesas.com/eng/products/memory/mej02c2003_m5m51008dvp.pdf; ComponentLink3Description: Packaging Specification; ComponentLink3URL: http://sg.renesas.com/media/products/common_info/package/pdf/ic/code/ptsa0032ka_a.pdf
footprint PTSA0032KA-A_N (TSSOP, 32-Leads, Body 8x18.4mm, Pitch 0.5mm, IPC Medium Density)
footprint PTSA0032KA-A_L (TSSOP, 32-Leads, Body 8x18.4mm, Pitch 0.5mm, IPC High Density)
footprint PTSA0032KA-A_M (TSSOP, 32-Leads, Body 8x18.4mm, Pitch 0.5mm, IPC Low Density)
pins: 1 A11 (in), 2 A9 (in), 3 A8 (in), 4 A13 (in), 5 ~{W} (in), 6 S2 (in), 7 A15 (in), 8 VCC (power), 9 NC, 10 A16 (in), 11 A14 (in), 12 A12 (in), 13 A7 (in), 14 A6 (in), 15 A5 (in), 16 A4 (in), 17 A3 (in), 18 A2 (in), 19 A1 (in), 20 A0 (in), 21 DQ1 (io), 22 DQ2 (io), 23 DQ3 (io), 24 GND (power), 25 DQ4 (io), 26 DQ5 (io), 27 DQ6 (io), 28 DQ7 (io), 29 DQ8 (io), 30 ~{S}1 (in), 31 A10 (in), 32 ~{OE} (in)

## M5M51008DVP-55HI
designator U?
1048576-bit (131072-word x 8-bit) CMOS STATIC SRAM; Published: 3-Mar-2010; DatasheetVersion: Ver 1.1, Apr-2003; PackageVersion: Sep-2005; PackageReference: PTSA0032KA-A; Publisher: Altium Limited; PackageDescription: 32-Pin Plastic Thin Shrink Small Outline Package 0.5 mm Pitch; Code_JEITA: P-TSOP(1)32-8x18.4-0.50; Code_IPC: TSSOP50P2000-32; ComponentLink1Description: Manufacturer Link; ComponentLink1URL: http://sg.renesas.com/products/memory/memory_category_landing.jsp; ComponentLink2Description: Datasheet; ComponentLink2URL: http://documentation.renesas.com/eng/products/memory/mej02c2003_m5m51008dvp.pdf; ComponentLink3Description: Packaging Specification; ComponentLink3URL: http://sg.renesas.com/media/products/common_info/package/pdf/ic/code/ptsa0032ka_a.pdf
footprint PTSA0032KA-A_N (TSSOP, 32-Leads, Body 8x18.4mm, Pitch 0.5mm, IPC Medium Density)
footprint PTSA0032KA-A_L (TSSOP, 32-Leads, Body 8x18.4mm, Pitch 0.5mm, IPC High Density)
footprint PTSA0032KA-A_M (TSSOP, 32-Leads, Body 8x18.4mm, Pitch 0.5mm, IPC Low Density)
pins: 1 A11 (in), 2 A9 (in), 3 A8 (in), 4 A13 (in), 5 ~{W} (in), 6 S2 (in), 7 A15 (in), 8 VCC (power), 9 NC, 10 A16 (in), 11 A14 (in), 12 A12 (in), 13 A7 (in), 14 A6 (in), 15 A5 (in), 16 A4 (in), 17 A3 (in), 18 A2 (in), 19 A1 (in), 20 A0 (in), 21 DQ1 (io), 22 DQ2 (io), 23 DQ3 (io), 24 GND (power), 25 DQ4 (io), 26 DQ5 (io), 27 DQ6 (io), 28 DQ7 (io), 29 DQ8 (io), 30 ~{S}1 (in), 31 A10 (in), 32 ~{OE} (in)

## M5M51008DVP-70H
designator U?
1048576-bit (131072-word x 8-bit) CMOS STATIC SRAM; Published: 3-Mar-2010; DatasheetVersion: Ver 1.1, Apr-2003; PackageVersion: Sep-2005; PackageReference: PTSA0032KA-A; Publisher: Altium Limited; PackageDescription: 32-Pin Plastic Thin Shrink Small Outline Package 0.5 mm Pitch; Code_JEITA: P-TSOP(1)32-8x18.4-0.50; Code_IPC: TSSOP50P2000-32; ComponentLink1Description: Manufacturer Link; ComponentLink1URL: http://sg.renesas.com/products/memory/memory_category_landing.jsp; ComponentLink2Description: Datasheet; ComponentLink2URL: http://documentation.renesas.com/eng/products/memory/mej02c2003_m5m51008dvp.pdf; ComponentLink3Description: Packaging Specification; ComponentLink3URL: http://sg.renesas.com/media/products/common_info/package/pdf/ic/code/ptsa0032ka_a.pdf
footprint PTSA0032KA-A_N (TSSOP, 32-Leads, Body 8x18.4mm, Pitch 0.5mm, IPC Medium Density)
footprint PTSA0032KA-A_L (TSSOP, 32-Leads, Body 8x18.4mm, Pitch 0.5mm, IPC High Density)
footprint PTSA0032KA-A_M (TSSOP, 32-Leads, Body 8x18.4mm, Pitch 0.5mm, IPC Low Density)
pins: 1 A11 (in), 2 A9 (in), 3 A8 (in), 4 A13 (in), 5 ~{W} (in), 6 S2 (in), 7 A15 (in), 8 VCC (power), 9 NC, 10 A16 (in), 11 A14 (in), 12 A12 (in), 13 A7 (in), 14 A6 (in), 15 A5 (in), 16 A4 (in), 17 A3 (in), 18 A2 (in), 19 A1 (in), 20 A0 (in), 21 DQ1 (io), 22 DQ2 (io), 23 DQ3 (io), 24 GND (power), 25 DQ4 (io), 26 DQ5 (io), 27 DQ6 (io), 28 DQ7 (io), 29 DQ8 (io), 30 ~{S}1 (in), 31 A10 (in), 32 ~{OE} (in)

## M5M51008DVP-70HI
designator U?
1048576-bit (131072-word x 8-bit) CMOS STATIC SRAM; Published: 3-Mar-2010; DatasheetVersion: Ver 1.1, Apr-2003; PackageVersion: Sep-2005; PackageReference: PTSA0032KA-A; Publisher: Altium Limited; PackageDescription: 32-Pin Plastic Thin Shrink Small Outline Package 0.5 mm Pitch; Code_JEITA: P-TSOP(1)32-8x18.4-0.50; Code_IPC: TSSOP50P2000-32; ComponentLink1Description: Manufacturer Link; ComponentLink1URL: http://sg.renesas.com/products/memory/memory_category_landing.jsp; ComponentLink2Description: Datasheet; ComponentLink2URL: http://documentation.renesas.com/eng/products/memory/mej02c2003_m5m51008dvp.pdf; ComponentLink3Description: Packaging Specification; ComponentLink3URL: http://sg.renesas.com/media/products/common_info/package/pdf/ic/code/ptsa0032ka_a.pdf
footprint PTSA0032KA-A_N (TSSOP, 32-Leads, Body 8x18.4mm, Pitch 0.5mm, IPC Medium Density)
footprint PTSA0032KA-A_L (TSSOP, 32-Leads, Body 8x18.4mm, Pitch 0.5mm, IPC High Density)
footprint PTSA0032KA-A_M (TSSOP, 32-Leads, Body 8x18.4mm, Pitch 0.5mm, IPC Low Density)
pins: 1 A11 (in), 2 A9 (in), 3 A8 (in), 4 A13 (in), 5 ~{W} (in), 6 S2 (in), 7 A15 (in), 8 VCC (power), 9 NC, 10 A16 (in), 11 A14 (in), 12 A12 (in), 13 A7 (in), 14 A6 (in), 15 A5 (in), 16 A4 (in), 17 A3 (in), 18 A2 (in), 19 A1 (in), 20 A0 (in), 21 DQ1 (io), 22 DQ2 (io), 23 DQ3 (io), 24 GND (power), 25 DQ4 (io), 26 DQ5 (io), 27 DQ6 (io), 28 DQ7 (io), 29 DQ8 (io), 30 ~{S}1 (in), 31 A10 (in), 32 ~{OE} (in)

## R1EX24002ASAS0A
designator U?
R1EX25xxx Series Two-wire serial interface 2k EEPROM (256-word × 8-bit); Published: 3-Mar-2010; DatasheetVersion: Rev.1.01, Jan-2009; PackageVersion: Sep-2005; PackageReference: PRSP0008DF-B; Publisher: Altium Limited; PackageDescription: 8-Pin Plastic Small Outline Integrated Circuit 1.27 mm Pitch; Code_JEITA: P-SOP8-3.9x4.89-1.27; ComponentLink1Description: Manufacturer Link; ComponentLink1URL: http://sg.renesas.com/products/memory/memory_category_landing.jsp; ComponentLink2Description: Datasheet; ComponentLink2URL: http://documentation.renesas.com/eng/products/memory/rej03c0354_r1ex24002axxs0ads.pdf; ComponentLink3Description: Packaging Specification; ComponentLink3URL: http://sg.renesas.com/media/products/common_info/package/pdf/ic/code/prsp0008df_b.pdf
footprint PRSP0008DF-B_N (SOIC, 8-Leads, Body 4.9x3.9mm, Pitch 1.27mm, IPC Medium Density)
footprint PRSP0008DF-B_L (SOIC, 8-Leads, Body 4.9x3.9mm, Pitch 1.27mm, IPC High Density)
footprint PRSP0008DF-B_M (SOIC, 8-Leads, Body 4.9x3.9mm, Pitch 1.27mm, IPC Low Density)
pins: 1 A0 (in), 2 A1 (in), 3 A2 (in), 4 VSS (power), 5 SDA (io), 6 SCL (in), 7 WP (in), 8 VCC (power)

## R1EX24002ASAS0I
designator U?
R1EX25xxx Series Two-wire serial interface 2k EEPROM (256-word × 8-bit); Published: 3-Mar-2010; DatasheetVersion: Rev.1.00, Oct-2009; PackageVersion: Sep-2005; PackageReference: PRSP0008DF-B; Publisher: Altium Limited; PackageDescription: 8-Pin Plastic Small Outline Integrated Circuit 1.27 mm Pitch; Code_JEITA: P-SOP8-3.9x4.89-1.27; ComponentLink1Description: Manufacturer Link; ComponentLink1URL: http://sg.renesas.com/products/memory/memory_category_landing.jsp; ComponentLink2Description: Datasheet; ComponentLink2URL: http://documentation.renesas.com/eng/products/memory/rej03c0355_r1ex24002axxs0ids.pdf; ComponentLink3Description: Packaging Specification; ComponentLink3URL: http://sg.renesas.com/media/products/common_info/package/pdf/ic/code/prsp0008df_b.pdf
footprint PRSP0008DF-B_N (SOIC, 8-Leads, Body 4.9x3.9mm, Pitch 1.27mm, IPC Medium Density)
footprint PRSP0008DF-B_L (SOIC, 8-Leads, Body 4.9x3.9mm, Pitch 1.27mm, IPC High Density)
footprint PRSP0008DF-B_M (SOIC, 8-Leads, Body 4.9x3.9mm, Pitch 1.27mm, IPC Low Density)
pins: 1 A0 (in), 2 A1 (in), 3 A2 (in), 4 VSS (power), 5 SDA (io), 6 SCL (in), 7 WP (in), 8 VCC (power)

## R1EX24002ATAS0A
designator U?
R1EX25xxx Series Two-wire serial interface 2k EEPROM (256-word × 8-bit); Published: 3-Mar-2010; DatasheetVersion: Rev.1.01, Jan-2009; PackageVersion: Sep-2005; PackageReference: PTSP0008JC-B; Publisher: Altium Limited; PackageDescription: 8-Pin Plastic Thin Small Outline Package 0.65 mm Pitch (TSSOP-8); Code_JEITA: P-TSSOP8-4.4x3-0.65; ComponentLink1Description: Manufacturer Link; ComponentLink1URL: http://sg.renesas.com/products/memory/memory_category_landing.jsp; ComponentLink2Description: Datasheet; ComponentLink2URL: http://documentation.renesas.com/eng/products/memory/rej03c0354_r1ex24002axxs0ads.pdf; ComponentLink3Description: Packaging Specification; ComponentLink3URL: http://sg.renesas.com/media/products/common_info/package/pdf/ic/code/ptsp0008jc_b.pdf
footprint PTSP0008JC-B_N (TSOP, 8-Leads, Body 3x4.4mm, Pitch 0.65mm, IPC Medium Density)
footprint PTSP0008JC-B_L (TSOP, 8-Leads, Body 3x4.4mm, Pitch 0.65mm, IPC High Density)
footprint PTSP0008JC-B_M (TSOP, 8-Leads, Body 3x4.4mm, Pitch 0.65mm, IPC Low Density)
pins: 1 A0 (in), 2 A1 (in), 3 A2 (in), 4 VSS (power), 5 SDA (io), 6 SCL (in), 7 WP (in), 8 VCC (power)

## R1EX24002ATAS0I
designator U?
R1EX25xxx Series Two-wire serial interface 2k EEPROM (256-word × 8-bit); Published: 3-Mar-2010; DatasheetVersion: Rev.1.00, Oct-2009; PackageVersion: Sep-2005; PackageReference: PTSP0008JC-B; Publisher: Altium Limited; PackageDescription: 8-Pin Plastic Thin Small Outline Package 0.65 mm Pitch (TSSOP-8); Code_JEITA: P-TSSOP8-4.4x3-0.65; ComponentLink1Description: Manufacturer Link; ComponentLink1URL: http://sg.renesas.com/products/memory/memory_category_landing.jsp; ComponentLink2Description: Datasheet; ComponentLink2URL: http://documentation.renesas.com/eng/products/memory/rej03c0355_r1ex24002axxs0ids.pdf; ComponentLink3Description: Packaging Specification; ComponentLink3URL: http://sg.renesas.com/media/products/common_info/package/pdf/ic/code/ptsp0008jc_b.pdf
footprint PTSP0008JC-B_N (TSOP, 8-Leads, Body 3x4.4mm, Pitch 0.65mm, IPC Medium Density)
footprint PTSP0008JC-B_L (TSOP, 8-Leads, Body 3x4.4mm, Pitch 0.65mm, IPC High Density)
footprint PTSP0008JC-B_M (TSOP, 8-Leads, Body 3x4.4mm, Pitch 0.65mm, IPC Low Density)
pins: 1 A0 (in), 2 A1 (in), 3 A2 (in), 4 VSS (power), 5 SDA (io), 6 SCL (in), 7 WP (in), 8 VCC (power)

## R1EX24004ASAS0A
designator U?
R1EX24xxx Series Two-wire serial interface 4k EEPROM (512-word × 8-bit); Published: 3-Mar-2010; DatasheetVersion: Rev.1.01, Jan-2009; PackageVersion: Sep-2005; PackageReference: PRSP0008DF-B; Publisher: Altium Limited; PackageDescription: 8-Pin Plastic Small Outline Integrated Circuit 1.27 mm Pitch; Code_JEITA: P-SOP8-3.9x4.89-1.27; ComponentLink1Description: Manufacturer Link; ComponentLink1URL: http://sg.renesas.com/products/memory/memory_category_landing.jsp; ComponentLink2Description: Datasheet; ComponentLink2URL: http://documentation.renesas.com/eng/products/memory/rej03c0353_r1ex24004axxs0ads.pdf; ComponentLink3Description: Packaging Specification; ComponentLink3URL: http://sg.renesas.com/media/products/common_info/package/pdf/ic/code/prsp0008df_b.pdf
footprint PRSP0008DF-B_N (SOIC, 8-Leads, Body 4.9x3.9mm, Pitch 1.27mm, IPC Medium Density)
footprint PRSP0008DF-B_L (SOIC, 8-Leads, Body 4.9x3.9mm, Pitch 1.27mm, IPC High Density)
footprint PRSP0008DF-B_M (SOIC, 8-Leads, Body 4.9x3.9mm, Pitch 1.27mm, IPC Low Density)
pins: 1 A0 (in), 2 A1 (in), 3 A2 (in), 4 VSS (power), 5 SDA (io), 6 SCL (in), 7 WP (in), 8 VCC (power)

## R1EX24004ASAS0I
designator U?
R1EX24xxx Series Two-wire serial interface 4k EEPROM (512-word × 8-bit); Published: 3-Mar-2010; DatasheetVersion: Rev.0.02, Jan-2009; PackageVersion: Sep-2005; PackageReference: PRSP0008DF-B; Publisher: Altium Limited; PackageDescription: 8-Pin Plastic Small Outline Integrated Circuit 1.27 mm Pitch; Code_JEITA: P-SOP8-3.9x4.89-1.27; ComponentLink1Description: Manufacturer Link; ComponentLink1URL: http://sg.renesas.com/products/memory/memory_category_landing.jsp; ComponentLink2Description: Datasheet; ComponentLink2URL: http://documentation.renesas.com/eng/products/memory/rej03c0356_r1ex24004axxs0ids.pdf; ComponentLink3Description: Packaging Specification; ComponentLink3URL: http://sg.renesas.com/media/products/common_info/package/pdf/ic/code/prsp0008df_b.pdf
footprint PRSP0008DF-B_N (SOIC, 8-Leads, Body 4.9x3.9mm, Pitch 1.27mm, IPC Medium Density)
footprint PRSP0008DF-B_L (SOIC, 8-Leads, Body 4.9x3.9mm, Pitch 1.27mm, IPC High Density)
footprint PRSP0008DF-B_M (SOIC, 8-Leads, Body 4.9x3.9mm, Pitch 1.27mm, IPC Low Density)
pins: 1 A0 (in), 2 A1 (in), 3 A2 (in), 4 VSS (power), 5 SDA (io), 6 SCL (in), 7 WP (in), 8 VCC (power)

## R1EX24004ATAS0A
designator U?
R1EX24xxx Series Two-wire serial interface 4k EEPROM (512-word × 8-bit); Published: 3-Mar-2010; DatasheetVersion: Rev.1.01, Jan-2009; PackageVersion: Sep-2005; PackageReference: PTSP0008JC-B; Publisher: Altium Limited; PackageDescription: 8-Pin Plastic Thin Small Outline Package 0.65 mm Pitch (TSSOP-8); Code_JEITA: P-TSSOP8-4.4x3-0.65; ComponentLink1Description: Manufacturer Link; ComponentLink1URL: http://sg.renesas.com/products/memory/memory_category_landing.jsp; ComponentLink2Description: Datasheet; ComponentLink2URL: http://documentation.renesas.com/eng/products/memory/rej03c0353_r1ex24004axxs0ads.pdf; ComponentLink3Description: Packaging Specification; ComponentLink3URL: http://sg.renesas.com/media/products/common_info/package/pdf/ic/code/ptsp0008jc_b.pdf
footprint PTSP0008JC-B_N (TSOP, 8-Leads, Body 3x4.4mm, Pitch 0.65mm, IPC Medium Density)
footprint PTSP0008JC-B_L (TSOP, 8-Leads, Body 3x4.4mm, Pitch 0.65mm, IPC High Density)
footprint PTSP0008JC-B_M (TSOP, 8-Leads, Body 3x4.4mm, Pitch 0.65mm, IPC Low Density)
pins: 1 A0 (in), 2 A1 (in), 3 A2 (in), 4 VSS (power), 5 SDA (io), 6 SCL (in), 7 WP (in), 8 VCC (power)

## R1EX24004ATAS0I
designator U?
R1EX24xxx Series Two-wire serial interface 4k EEPROM (512-word × 8-bit); Published: 3-Mar-2010; DatasheetVersion: Rev.0.02, Jan-2009; PackageVersion: Sep-2005; PackageReference: PTSP0008JC-B; Publisher: Altium Limited; PackageDescription: 8-Pin Plastic Thin Small Outline Package 0.65 mm Pitch (TSSOP-8); Code_JEITA: P-TSSOP8-4.4x3-0.65; ComponentLink1Description: Manufacturer Link; ComponentLink1URL: http://sg.renesas.com/products/memory/memory_category_landing.jsp; ComponentLink2Description: Datasheet; ComponentLink2URL: http://documentation.renesas.com/eng/products/memory/rej03c0356_r1ex24004axxs0ids.pdf; ComponentLink3Description: Packaging Specification; ComponentLink3URL: http://sg.renesas.com/media/products/common_info/package/pdf/ic/code/ptsp0008jc_b.pdf
footprint PTSP0008JC-B_N (TSOP, 8-Leads, Body 3x4.4mm, Pitch 0.65mm, IPC Medium Density)
footprint PTSP0008JC-B_L (TSOP, 8-Leads, Body 3x4.4mm, Pitch 0.65mm, IPC High Density)
footprint PTSP0008JC-B_M (TSOP, 8-Leads, Body 3x4.4mm, Pitch 0.65mm, IPC Low Density)
pins: 1 A0 (in), 2 A1 (in), 3 A2 (in), 4 VSS (power), 5 SDA (io), 6 SCL (in), 7 WP (in), 8 VCC (power)

## R1EX24008ASA00A
designator U?
R1EX24xxx Series Two-wire serial interface 8k EEPROM (1024-word × 8-bit); Published: 3-Mar-2010; DatasheetVersion: Rev.1.00, Oct-2009; PackageVersion: Sep-2005; PackageReference: PRSP0008DF-B; Publisher: Altium Limited; PackageDescription: 8-Pin Plastic Small Outline Integrated Circuit 1.27 mm Pitch; Code_JEITA: P-SOP8-3.9x4.89-1.27; ComponentLink1Description: Manufacturer Link; ComponentLink1URL: http://sg.renesas.com/products/memory/memory_category_landing.jsp; ComponentLink2Description: Datasheet; ComponentLink2URL: http://documentation.renesas.com/eng/products/memory/rej03c0351_r1ex24008axx00ads.pdf; ComponentLink3Description: Packaging Specification; ComponentLink3URL: http://sg.renesas.com/media/products/common_info/package/pdf/ic/code/prsp0008df_b.pdf
footprint PRSP0008DF-B_N (SOIC, 8-Leads, Body 4.9x3.9mm, Pitch 1.27mm, IPC Medium Density)
footprint PRSP0008DF-B_L (SOIC, 8-Leads, Body 4.9x3.9mm, Pitch 1.27mm, IPC High Density)
footprint PRSP0008DF-B_M (SOIC, 8-Leads, Body 4.9x3.9mm, Pitch 1.27mm, IPC Low Density)
pins: 1 A0 (in), 2 A1 (in), 3 A2 (in), 4 VSS (power), 5 SDA (io), 6 SCL (in), 7 WP (in), 8 VCC (power)

## R1EX24008ASA00I
designator U?
R1EX24xxx Series Two-wire serial interface 8k EEPROM (1024-word × 8-bit); Published: 3-Mar-2010; DatasheetVersion: Rev.0.02, Jan-2009; PackageVersion: Sep-2005; PackageReference: PRSP0008DF-B; Publisher: Altium Limited; PackageDescription: 8-Pin Plastic Small Outline Integrated Circuit 1.27 mm Pitch; Code_JEITA: P-SOP8-3.9x4.89-1.27; ComponentLink1Description: Manufacturer Link; ComponentLink1URL: http://sg.renesas.com/products/memory/memory_category_landing.jsp; ComponentLink2Description: Datasheet; ComponentLink2URL: http://documentation.renesas.com/eng/products/memory/rej03c0363_r1ex24008axx00ids.pdf; ComponentLink3Description: Packaging Specification; ComponentLink3URL: http://sg.renesas.com/media/products/common_info/package/pdf/ic/code/prsp0008df_b.pdf
footprint PRSP0008DF-B_N (SOIC, 8-Leads, Body 4.9x3.9mm, Pitch 1.27mm, IPC Medium Density)
footprint PRSP0008DF-B_L (SOIC, 8-Leads, Body 4.9x3.9mm, Pitch 1.27mm, IPC High Density)
footprint PRSP0008DF-B_M (SOIC, 8-Leads, Body 4.9x3.9mm, Pitch 1.27mm, IPC Low Density)
pins: 1 A0 (in), 2 A1 (in), 3 A2 (in), 4 VSS (power), 5 SDA (io), 6 SCL (in), 7 WP (in), 8 VCC (power)

## R1EX24008ASAS0A
designator U?
R1EX24xxx Series Two-wire serial interface 8k EEPROM (1024-word × 8-bit); Published: 3-Mar-2010; DatasheetVersion: Rev.1.01, Jan-2009; PackageVersion: Sep-2005; PackageReference: PRSP0008DF-B; Publisher: Altium Limited; PackageDescription: 8-Pin Plastic Small Outline Integrated Circuit 1.27 mm Pitch; Code_JEITA: P-SOP8-3.9x4.89-1.27; ComponentLink1Description: Manufacturer Link; ComponentLink1URL: http://sg.renesas.com/products/memory/memory_category_landing.jsp; ComponentLink2Description: Datasheet; ComponentLink2URL: http://documentation.renesas.com/eng/products/memory/rej03c0352_r1ex24008axxs0ads.pdf; ComponentLink3Description: Packaging Specification; ComponentLink3URL: http://sg.renesas.com/media/products/common_info/package/pdf/ic/code/prsp0008df_b.pdf
footprint PRSP0008DF-B_N (SOIC, 8-Leads, Body 4.9x3.9mm, Pitch 1.27mm, IPC Medium Density)
footprint PRSP0008DF-B_L (SOIC, 8-Leads, Body 4.9x3.9mm, Pitch 1.27mm, IPC High Density)
footprint PRSP0008DF-B_M (SOIC, 8-Leads, Body 4.9x3.9mm, Pitch 1.27mm, IPC Low Density)
pins: 1 A0 (in), 2 A1 (in), 3 A2 (in), 4 VSS (power), 5 SDA (io), 6 SCL (in), 7 WP (in), 8 VCC (power)

## R1EX24008ASAS0I
designator U?
R1EX24xxx Series Two-wire serial interface 8k EEPROM (1024-word × 8-bit); Published: 3-Mar-2010; DatasheetVersion: Rev.0.02, Jan-2009; PackageVersion: Sep-2005; PackageReference: PRSP0008DF-B; Publisher: Altium Limited; PackageDescription: 8-Pin Plastic Small Outline Integrated Circuit 1.27 mm Pitch; Code_JEITA: P-SOP8-3.9x4.89-1.27; ComponentLink1Description: Manufacturer Link; ComponentLink1URL: http://sg.renesas.com/products/memory/memory_category_landing.jsp; ComponentLink2Description: Datasheet; ComponentLink2URL: http://documentation.renesas.com/eng/products/memory/rej03c0364_r1ex24008axxs0ids.pdf; ComponentLink3Description: Packaging Specification; ComponentLink3URL: http://sg.renesas.com/media/products/common_info/package/pdf/ic/code/prsp0008df_b.pdf
footprint PRSP0008DF-B_N (SOIC, 8-Leads, Body 4.9x3.9mm, Pitch 1.27mm, IPC Medium Density)
footprint PRSP0008DF-B_L (SOIC, 8-Leads, Body 4.9x3.9mm, Pitch 1.27mm, IPC High Density)
footprint PRSP0008DF-B_M (SOIC, 8-Leads, Body 4.9x3.9mm, Pitch 1.27mm, IPC Low Density)
pins: 1 A0 (in), 2 A1 (in), 3 A2 (in), 4 VSS (power), 5 SDA (io), 6 SCL (in), 7 WP (in), 8 VCC (power)